# EAGLE library part ESP32-H2-MINI-1 (library esp32-h2-mini-1)
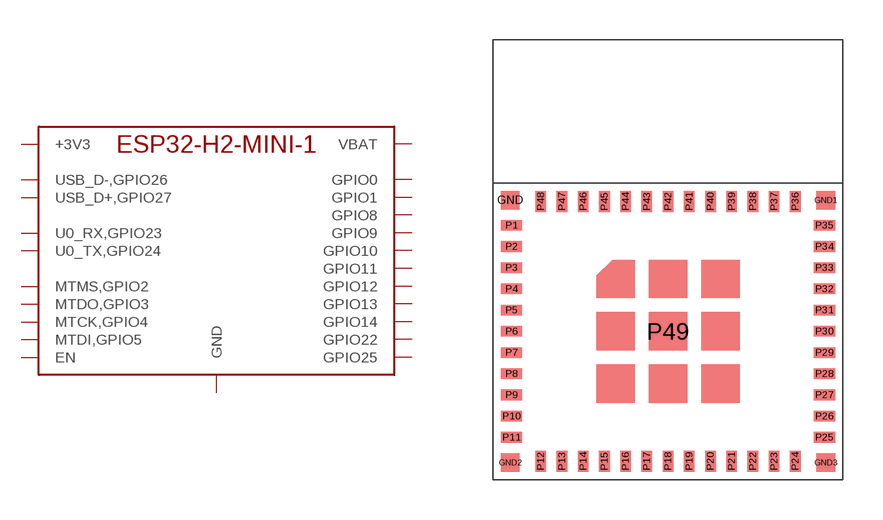
[diagram p0: symbol with the pads of ESP32-H2-MINI-1; footprint ESP32-H2-MINI-1]

Designator prefix -

## ESP32-H2-MINI-1  [ESP32-H2-MINI-1]
GND  GND  pwr
GND1  GND  pwr
GND2  GND  pwr
GND3  GND  pwr
P1  GND  pwr
P2  GND  pwr
P3  +3V3  pwr
P4  NC  nc
P5  MTMS,GPIO2
P6  MTDO,GPIO3
P7  NC  nc
P8  EN  pwr
P9  GPIO0
P10  GPIO1
P11  GND  pwr
P12  GPIO13
P13  GPIO14
P14  GND  pwr
P15  VBAT  pwr
P16  GPIO12
P17  NC  nc
P18  MTCK,GPIO4
P19  MTDI,GPIO5
P20  GPIO10
P21  GPIO11
P22  GPIO8
P23  GPIO9
P24  GPIO22
P25  GPIO25
P26  USB_D-,GPIO26
P27  USB_D+,GPIO27
P28  NC  nc
P29  NC  nc
P30  U0_RX,GPIO23
P31  U0_TX,GPIO24
P32  NC  nc
P33  NC  nc
P34  NC  nc
P35  NC  nc
P36  GND  pwr
P37  GND  pwr
P38  GND  pwr
P39  GND  pwr
P40  GND  pwr
P41  GND  pwr
P42  GND  pwr
P43  GND  pwr
P44  GND  pwr
P45  GND  pwr
P46  GND  pwr
P47  GND  pwr
P48  GND  pwr
P49  GND  pwr

## Footprint ESP32-H2-MINI-1 (pad centres in mm)
smd 0.7 x 0.7: GND -5.95,4.95; GND1 5.95,4.95; GND2 -5.95,-4.95; GND3 5.95,-4.95
smd 0.8 x 0.4: P1 -5.9,4; P2 -5.9,3.2; P3 -5.9,2.4; P4 -5.9,1.6; P5 -5.9,0.8; P6 -5.9,0; P7 -5.9,-0.8; P8 -5.9,-1.6; P9 -5.9,-2.4; P10 -5.9,-3.2; P11 -5.9,-4; P25 5.9,-4; P26 5.9,-3.2; P27 5.9,-2.4; P28 5.9,-1.6; P29 5.9,-0.8; P30 5.9,0; P31 5.9,0.8; P32 5.9,1.6; P33 5.9,2.4; P34 5.9,3.2; P35 5.9,4
smd 0.4 x 0.8: P12 -4.8,-4.9; P13 -4,-4.9; P14 -3.2,-4.9; P15 -2.4,-4.9; P16 -1.6,-4.9; P17 -0.8,-4.9; P18 0,-4.9; P19 0.8,-4.9; P20 1.6,-4.9; P21 2.4,-4.9; P22 3.2,-4.9; P23 4,-4.9; P24 4.8,-4.9; P36 4.8,4.9; P37 4,4.9; P38 3.2,4.9; P39 2.4,4.9; P40 1.6,4.9; P41 0.8,4.9; P42 0,4.9; P43 -0.8,4.9; P44 -1.6,4.9; P45 -2.4,4.9; P46 -3.2,4.9; P47 -4,4.9; P48 -4.8,4.9
smd 1.45 x 1.45: P49 0,0